# EAGLE library part 4097 (library 40xx)
Dual 8-channel ANALOG MULTIPLEXER
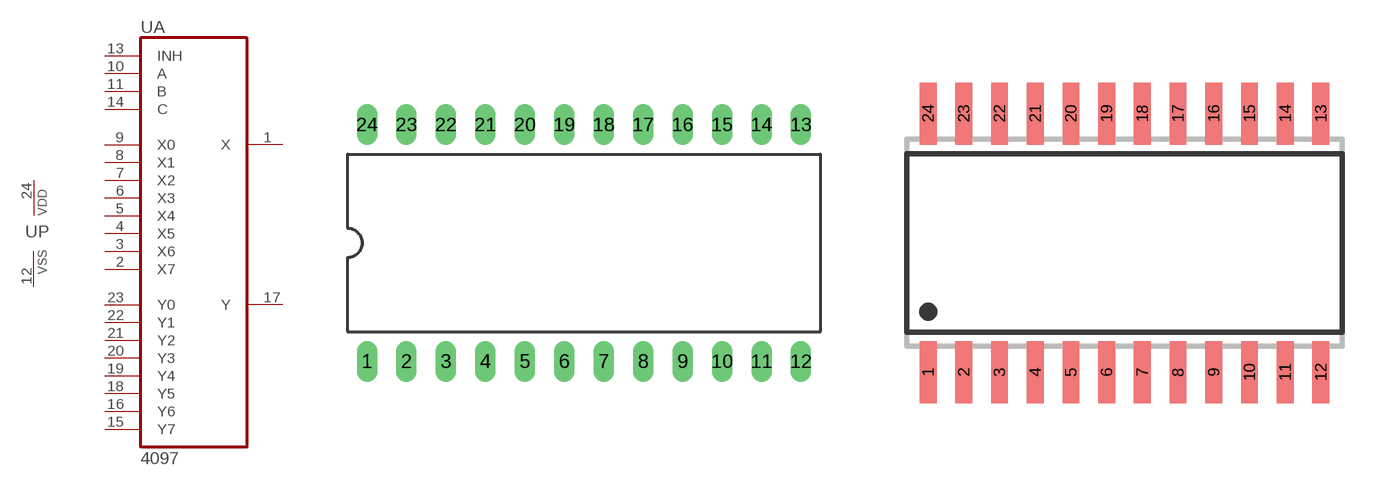
[diagram p53: symbol with the pads of DIL24-6; footprints DIL24-6, SO24W]

Designator prefix U; gates A=4097 P=PWRN

## 4097N  [DIL24-6]
1  A:X  out
2  A:X7  in
3  A:X6  in
4  A:X5  in
5  A:X4  in
6  A:X3  in
7  A:X2  in
8  A:X1  in
9  A:X0  in
10  A:A  in
11  A:B  in
12  P:VSS  pwr
13  A:INH  in
14  A:C  in
15  A:Y7  in
16  A:Y6  in
17  A:Y  out
18  A:Y5  in
19  A:Y4  in
20  A:Y3  in
21  A:Y2  in
22  A:Y1  in
23  A:Y0  in
24  P:VDD  pwr

## 4097D  [SO24W]
Pads as for DIL24-6

## Footprint DIL24-6 (pad centres in mm)
Dual In Line Package 0.6 inch
drill 0.813 long: 1 -13.97,-7.62; 2 -11.43,-7.62; 3 -8.89,-7.62; 4 -6.35,-7.62; 5 -3.81,-7.62; 6 -1.27,-7.62; 7 1.27,-7.62; 8 3.81,-7.62; 9 6.35,-7.62; 10 8.89,-7.62; 11 11.43,-7.62; 12 13.97,-7.62; 13 13.97,7.62; 14 11.43,7.62; 15 8.89,7.62; 16 6.35,7.62; 17 3.81,7.62; 18 1.27,7.62; 19 -1.27,7.62; 20 -3.81,7.62; 21 -6.35,7.62; 22 -8.89,7.62; 23 -11.43,7.62; 24 -13.97,7.62

## Footprint SO24W (pad centres in mm)
SMALL OUTLINE INTEGRATED CIRCUIT wide body 7.5 mm/JEDEC MO-119AA
smd 0.6 x 2.2: 1 -6.985,-4.6; 2 -5.715,-4.6; 3 -4.445,-4.6; 4 -3.175,-4.6; 5 -1.905,-4.6; 6 -0.635,-4.6; 7 0.635,-4.6; 8 1.905,-4.6; 9 3.175,-4.6; 10 4.445,-4.6; 11 5.715,-4.6; 12 6.985,-4.6; 13 6.985,4.6; 14 5.715,4.6; 15 4.445,4.6; 16 3.175,4.6; 17 1.905,4.6; 18 0.635,4.6; 19 -0.635,4.6; 20 -1.905,4.6; 21 -3.175,4.6; 22 -4.445,4.6; 23 -5.715,4.6; 24 -6.985,4.6